# EAGLE library part 1PEEK-14_C (library con-odu_med)
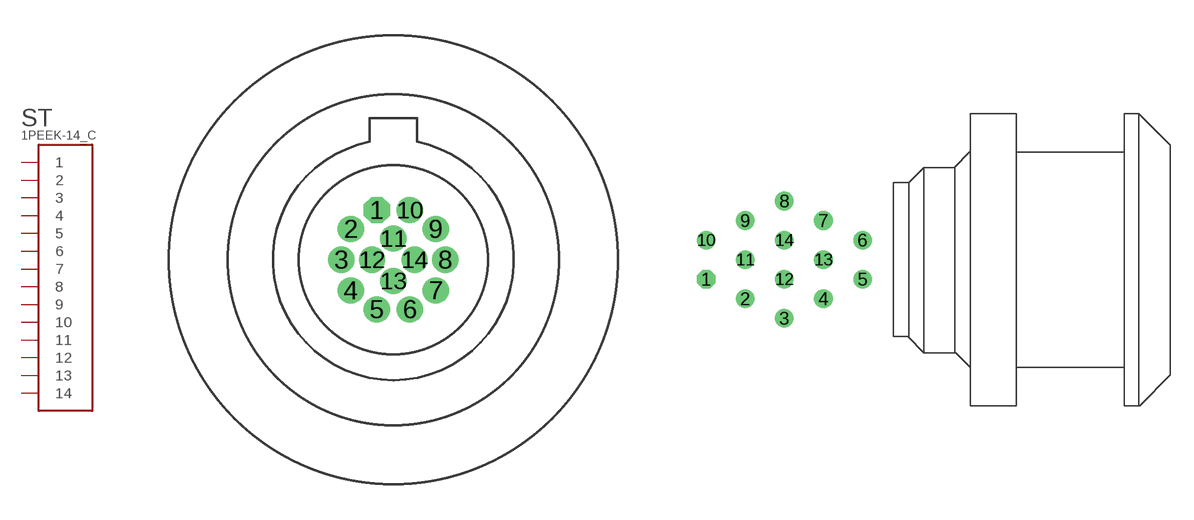
[diagram p12: symbol with the pads of 1PEEK14; footprints 1PEEK14, 1PEEK14_S]

Designator prefix ST

## 1PEEK-14_C  [1PEEK14]
1  1  pas
2  2  pas
3  3  pas
4  4  pas
5  5  pas
6  6  pas
7  7  pas
8  8  pas
9  9  pas
10  10  pas
11  11  pas
12  12  pas
13  13  pas
14  14  pas

## 1PEEK-14_C1PEEK14-S  [1PEEK14_S]
Pads as for 1PEEK14

## Footprint 1PEEK14 (pad centres in mm)
drill 0.6 octagon: 1 -0.7,2.1
drill 0.6: 2 -1.8,1.3; 3 -2.2,0; 4 -1.8,-1.3; 5 -0.7,-2.1; 6 0.7,-2.1; 7 1.8,-1.3; 8 2.2,0; 9 1.8,1.3; 10 0.7,2.1; 11 0,0.9; 12 -0.9,0; 13 0,-0.9; 14 0.9,0

## Footprint 1PEEK14_S (pad centres in mm)
drill 0.7 octagon: 1 -10.16,-1.27
drill 0.7: 2 -7.62,-2.54; 3 -5.08,-3.81; 4 -2.54,-2.54; 5 0,-1.27; 6 0,1.27; 7 -2.54,2.54; 8 -5.08,3.81; 9 -7.62,2.54; 10 -10.16,1.27; 11 -7.62,0; 12 -5.08,-1.27; 13 -2.54,0; 14 -5.08,1.27